# Altium schematic symbol library Conn-5pos.SchLib: 1 symbol
Pins are listed as number, name and electrical type; pins without a type are passive.

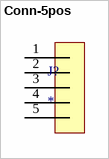
[diagram p0: symbol Conn-5pos]

## Conn-5pos
designator J?
pins: 1, 2, 3, 4, 5